# Altium footprint library Library_oll_component.PcbLib: 31 footprints (part 2 of 2)
Each footprint in its own frame and in the unit in brackets; x right, y up, seen from the top. Pads: shape width x height; smd on the part's side, far side on the other; paste and mask are expansions set on the pad; w line width, h text height; cw(c..) or ccw(c..) is an arc to the next point about the centre after c.
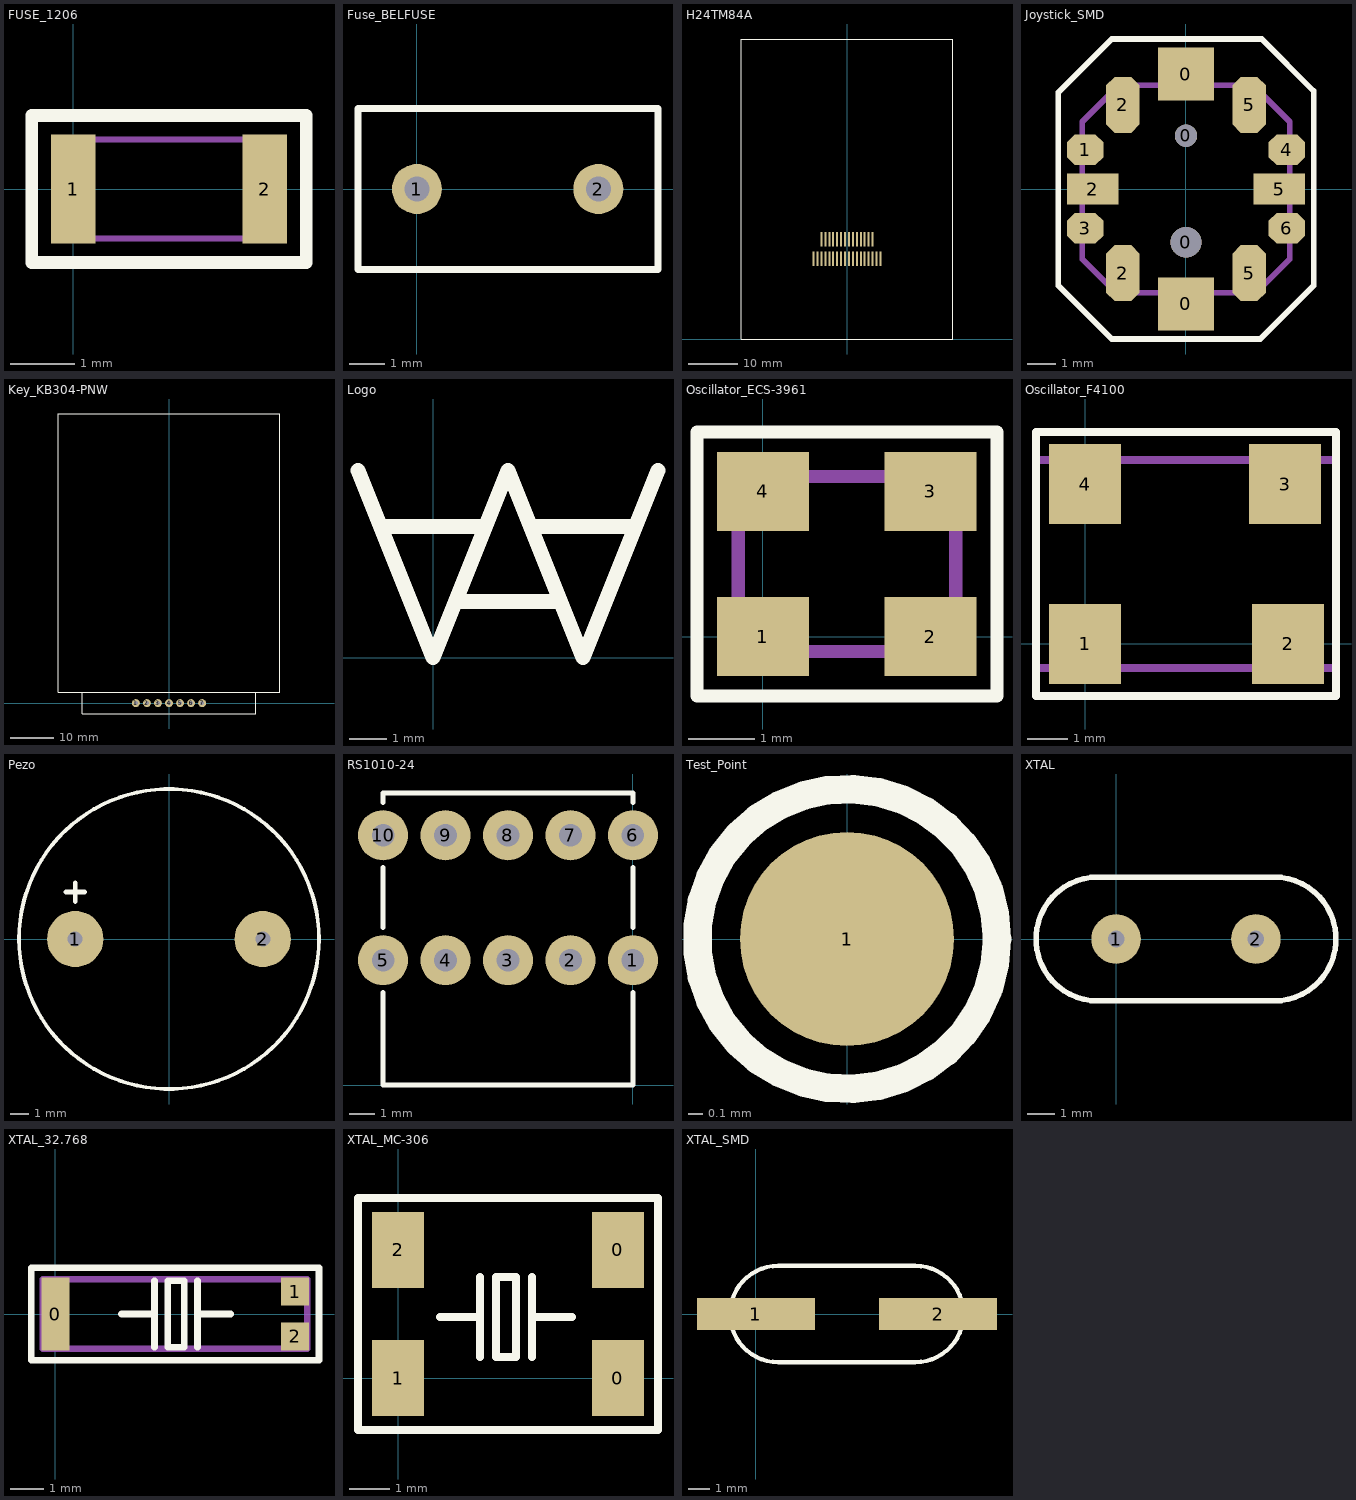
[diagram p1: the footprints below, top view; thin cyan lines are the x and y axes]

## FUSE_1206 [mm]
pads (2):
  rect 0.7x1.7 smd: 1(0,0) 2(3,0)
Top Overlay:
  lines w0.2: -0.65,-1.15 -0.65,1.15 3.65,1.15 3.65,-1.15 -0.65,-1.15
TopAssy:
  lines w0.1: 0,-0.775 0,0.775 3,0.775 3,-0.775 0,-0.775
3D body "User Library-nona SMD075F.STEP": height 0.56, standoff 0, extent -0.101,-0.826 3.101,0.826

## Fuse_BELFUSE [mm]
pads (2):
  round 1.4 hole 0.7: 1(0,0) 2(5.08,0)
Top Overlay:
  lines w0.2: -1.65,-2.25 -1.65,2.25 6.75,2.25 6.75,-2.25 -1.65,-2.25
3D body "User Library-Littelfuse 392.STEP": height 8.05, standoff -1.95, extent -1.7,-2.252 6.8,2.252

## H24TM84A [mm]
pads (32):
  rect 0.4x2.9 smd: 1(-6.8,16.3) 1(-5.2,20.3) 2(-6,16.3) 2(-4.4,20.3) 3(-5.2,16.3) 3(-3.6,20.3) 4(-4.4,16.3) 4(-2.8,20.3) 5(-3.6,16.3) 5(-2,20.3) 6(-2.8,16.3) 6(-1.2,20.3) 7(-2,16.3) 7(-0.4,20.3) 8(-1.2,16.3) 8(0.4,20.3) 9(-0.4,16.3) 9(1.2,20.3) 10(0.4,16.3) 10(2,20.3) 11(1.2,16.3) 11(2.8,20.3) 12(2,16.3) 12(3.6,20.3) 13(2.8,16.3) 13(4.4,20.3) 14(3.6,16.3) 14(5.2,20.3) 15(4.4,16.3) 16(5.2,16.3) 17(6,16.3) 18(6.8,16.3)
Top Overlay:
  lines w0.2: -21.5,0 -21.5,61 21.5,61 21.5,0 -21.5,0
3D body: height 4.3, standoff 2, extent -21.6,-0.1 21.6,61.1

## Joystick_SMD [mm]
pads (14):
  rect 2x1.9 smd: 0(0,-4.1) 0(0,4.1)
  round 1.1 hole 1.1: 0(0,-1.9)
  round 0.8 hole 0.8: 0(0,1.9)
  oct 1.3x1.1 smd: 1(-3.6,1.4) 3(-3.6,-1.4) 4(3.6,1.4) 6(3.6,-1.4)
  rect 1.85x1.1 smd: 2(-3.325,0) 5(3.325,0)
  oct 1.2x2 smd: 2(-2.25,-3) 2(-2.25,3) 5(2.25,-3) 5(2.25,3)
Top Overlay:
  lines w0.2: -4.55,-3.45 -4.55,3.45 -2.65,5.35 -0.925,5.35 2.7,5.35 4.55,3.5 4.55,-3.45 2.65,-5.35 -2.65,-5.35 -4.55,-3.45
TopAssy:
  lines w0.2: -3.7,-2.5 -3.7,2.4 ; -3.7,-2.5 -2.5,-3.7 ; -3.7,-2.5 -2.5,-3.7 ; -3.7,-2.5 -3.7,2.4 ; -3.7,2.4 -2.4,3.7 ; -3.7,2.4 -2.4,3.7 ; -2.5,-3.7 2.5,-3.7 ; -2.4,3.7 2.4,3.7 ; -2.4,3.7 2.4,3.7 ; 2.4,3.7 3.7,2.4 ; 2.4,3.7 3.7,2.4 ; 2.5,-3.7 3.7,-2.5 ; 2.5,-3.7 3.7,-2.5 ; 3.7,-2.5 3.7,2.4 ; 3.7,-2.5 3.7,2.4
3D body: height 5, standoff 3, extent -1.137,-1.137 1.137,1.137
3D body: height 3, standoff 2.3, extent -1.499,-1.5 1.499,1.499
3D body: height 2.3, standoff 1.8, extent -2.249,-2.249 2.25,2.249
3D body: height 0, standoff -0.5, extent -0.299,1.601 0.3,2.2
3D body: height 0, standoff -0.5, extent -0.449,-2.349 0.45,-1.45
3D body: height 1.8, standoff 0, extent -3.701,-3.701 3.701,3.701

## Key_KB304-PNW [mm]
pads (7):
  round 1.8 hole 0.9: 1(-7.62,0) 2(-5.08,0) 3(-2.54,0) 4(0,0) 5(2.54,0) 6(5.08,0) 7(7.62,0)
Top Overlay:
  lines w0.2: -20,2.5 -20,-2.5 20,-2.5 20,2.5 ; -25.5,2.5 -25.5,66.5 25.5,66.5 25.5,2.5 -25.5,2.5

## Logo [mm]
Top Overlay:
  lines w0.4: -2,5 0,0 2,5 4,0 6,5 ; -1.4,3.5 1.4,3.5 ; 0.6,1.5 3.4,1.5 ; 2.6,3.5 5.4,3.5

## Oscillator_ECS-3961 [mm]
pads (4):
  rect 1.4x1.2 smd paste+0: 1(0,0) 2(2.54,0) 3(2.54,2.2) 4(0,2.2)
Top Overlay:
  lines w0.2: -1,-0.9 -1,3.1 3.55,3.1 3.55,-0.9 -1,-0.9
TopAssy:
  lines w0.2: -0.375,-0.225 2.925,-0.225 2.925,2.425 -0.375,2.425 -0.375,-0.225
3D body "User Library-ASTX-H11.STEP": height 1.1, standoff 0, extent -0.375,-0.2 2.925,2.4

## Oscillator_F4100 [mm]
pads (4):
  rect 1.8x2 smd: 1(0,0) 2(5.08,0) 3(5,4) 4(0,4)
Top Overlay:
  lines w0.2: -1.225,-1.3 6.275,-1.3 6.275,5.3 -1.225,5.3 -1.225,-1.3
TopAssy:
  lines w0.2: -1.225,-0.6 -1.225,4.6 6.275,4.6 6.275,-0.6 -1.225,-0.6
3D body "User Library-FXO_LC73.STEP": height 1.4, standoff -0.02, extent -1.225,-0.6 6.275,4.6

## Pezo [mm]
pads (2):
  round 3 hole 0.8: 1(-5,0) 2(5,0)
Top Overlay:
  circle w0.2: c0,0 r8
  lines w0.254: -5.5,2.5 -4.5,2.5 ; -5,2 -5,3
3D body: height 12, standoff 0, extent -7.999,-7.999 7.999,7.999

## RS1010-24 [mm]
pads (10):
  round 2 hole 0.9: 1(0,5) 2(-2.5,5) 3(-5,5) 4(-7.5,5) 5(-10,5) 6(0,10) 7(-2.5,10) 8(-5,10) 9(-7.5,10) 10(-10,10)
Top Overlay:
  lines w0.2: -10,3.7 -10,0 0,0 0,3.7 ; -10,6.3 -10,8.7 ; -10,11.3 -10,11.7 0,11.7 0,11.3 ; 0,6.3 0,8.7
3D body "User Library-TrimPot.STEP": height 20.3, standoff -4.9, extent -13.5,-15.125 3.5,9.075

## Test_Point [mm]
pads (1):
  round 1.5 smd: 1(0,0)
Top Overlay:
  circle w0.2: c0,0 r1.05

## XTAL [mm]
pads (2):
  round 1.8 hole 0.6: 1(0,0) 2(5.08,0)
Top Overlay:
  lines w0.2: -0.66,-2.25 cw(c-0.66,0) -0.66,2.25 5.74,2.25 cw(c5.74,0) 5.74,-2.25 -0.66,-2.25
3D body "SW3dPS-XTAL2.STEP": height 3.09, standoff -2.54, extent -2.794,-1.524 7.874,1.524

## XTAL_32.768 [mm]
pads (3):
  rect 0.85x2.2 smd: 0(0,0)
  rect 0.85x0.85 smd: 1(7.25,0.675) 2(7.25,-0.675)
Top Overlay:
  lines w0.2: 2,0 3,0 ; 3,-1 3,1 ; 4.3,-1 4.3,1 ; 4.3,0 5.3,0 ; -0.725,-1.4 -0.725,1.4 7.975,1.4 7.975,-1.4 -0.725,-1.4 ; 3.4,-1 3.9,-1 3.9,1 3.4,1 3.4,-1
TopAssy:
  lines w0.2: -0.375,-1.05 7.625,-1.05 7.625,1.05 -0.375,1.05 -0.375,-1.05
3D body: height 1.99, standoff 0, extent -0.125,-0.998 7.375,0.998

## XTAL_MC-306 [mm]
pads (4):
  rect 1.3x1.9 smd: 0(5.5,0) 0(5.5,3.2) 1(0,0) 2(0,3.2)
Top Overlay:
  lines w0.2: 1.05,1.525 2.05,1.525 ; 2.05,0.525 2.05,2.525 ; 3.35,0.525 3.35,2.525 ; 3.35,1.525 4.35,1.525 ; -1,-1.3 6.5,-1.3 6.5,4.5 -1,4.5 -1,-1.3 ; 2.45,0.525 2.45,2.525 2.95,2.525 2.95,0.525 2.45,0.525

## XTAL_SMD [mm]
pads (2):
  rect 5.5x1.5 smd: 1(0,0) 2(8.5,0)
Top Overlay:
  lines w0.2: 1.04,-2.25 cw(c1.04,0) 1.04,2.25 7.44,2.25 cw(c7.44,0) 7.44,-2.25 1.04,-2.25
3D body "User Library-Precision_CSM-7.STEP": height 4.55, standoff 0, extent -2.1,-2.5 10.7,2.5